# Altium integrated library Display_LED.IntLib: 4 symbols
Pins are listed as number, name and electrical type; pins without a type are passive.

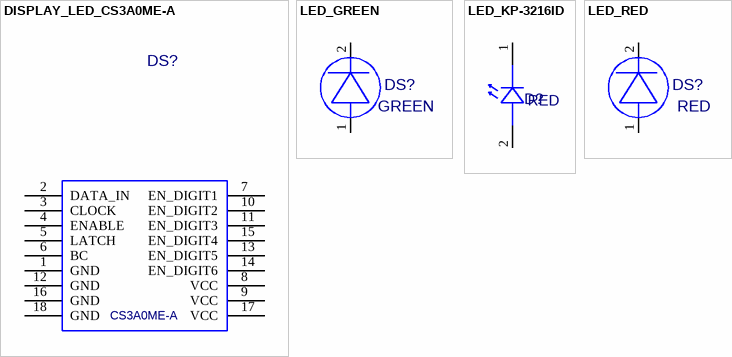
[diagram p0: symbols DISPLAY_LED_CS3A0ME-A to LED_RED]

## DISPLAY_LED_CS3A0ME-A
designator DS?, comment value CS3A0ME-A  (hidden comment: 60052-0075)
Display, LED CS3A0ME-A; ECAD_Revsion: 1; Librarian: US; HelpURL: K:\ACCELEDA\PDF Spec Files\Display\CS3A0ME-A_REV.05.PDF; Item: *; PartNumber: 60052-0075
footprint DIS13
pins: 1 GND, 2 DATA_IN, 3 CLOCK, 4 ENABLE, 5 LATCH, 6 BC (power), 7 EN_DIGIT1, 8 VCC (power), 9 VCC (power), 10 EN_DIGIT2, 11 EN_DIGIT3, 12 GND, 13 EN_DIGIT5, 14 EN_DIGIT6, 15 EN_DIGIT4, 16 GND, 17 VCC, 18 GND

## LED_GREEN
designator DS?, comment value GREEN  (hidden comment: 60046-0075)
LED, GREEN; ECAD_Revsion: 1; Librarian: US; PartNumber: 60046-0075; HelpURL: K:\ACCELEDA\PDF Spec Files\Display\QTLP630C.PDF; Item: *; Power Rating: *; Tolerance: *
footprint LED1
pins: 1 A, 2 K

## LED_KP-3216ID
designator D?, comment value RED  (hidden comment: 70642-252)
Diode, KP-3216ID, Red LED SMT; ECAD_Revision: 1; Librarian: UK; PartNumber: 70642-252; HelpURL: *; Tolerance: *; Power Rating: *
footprint LED_KP3216 (Kingbright 3.2 x 1.6 mm lamp, Rev. 1)
pins: 1 K, 2 A

## LED_RED
designator DS?, comment value RED  (hidden comment: 60046-0018)
LED, RED; ECAD_Revsion: 1; Librarian: US; PartNumber: 60046-0018; HelpURL: K:\ACCELEDA\PDF Spec Files\Display\QTLP630C.PDF; Item: *; Power Rating: *; Tolerance: *
footprint LED1
pins: 1 A, 2 K